# Altium integrated library Linear Technology Power Management Battery Management.IntLib: 626 symbols (part 56 of 56)
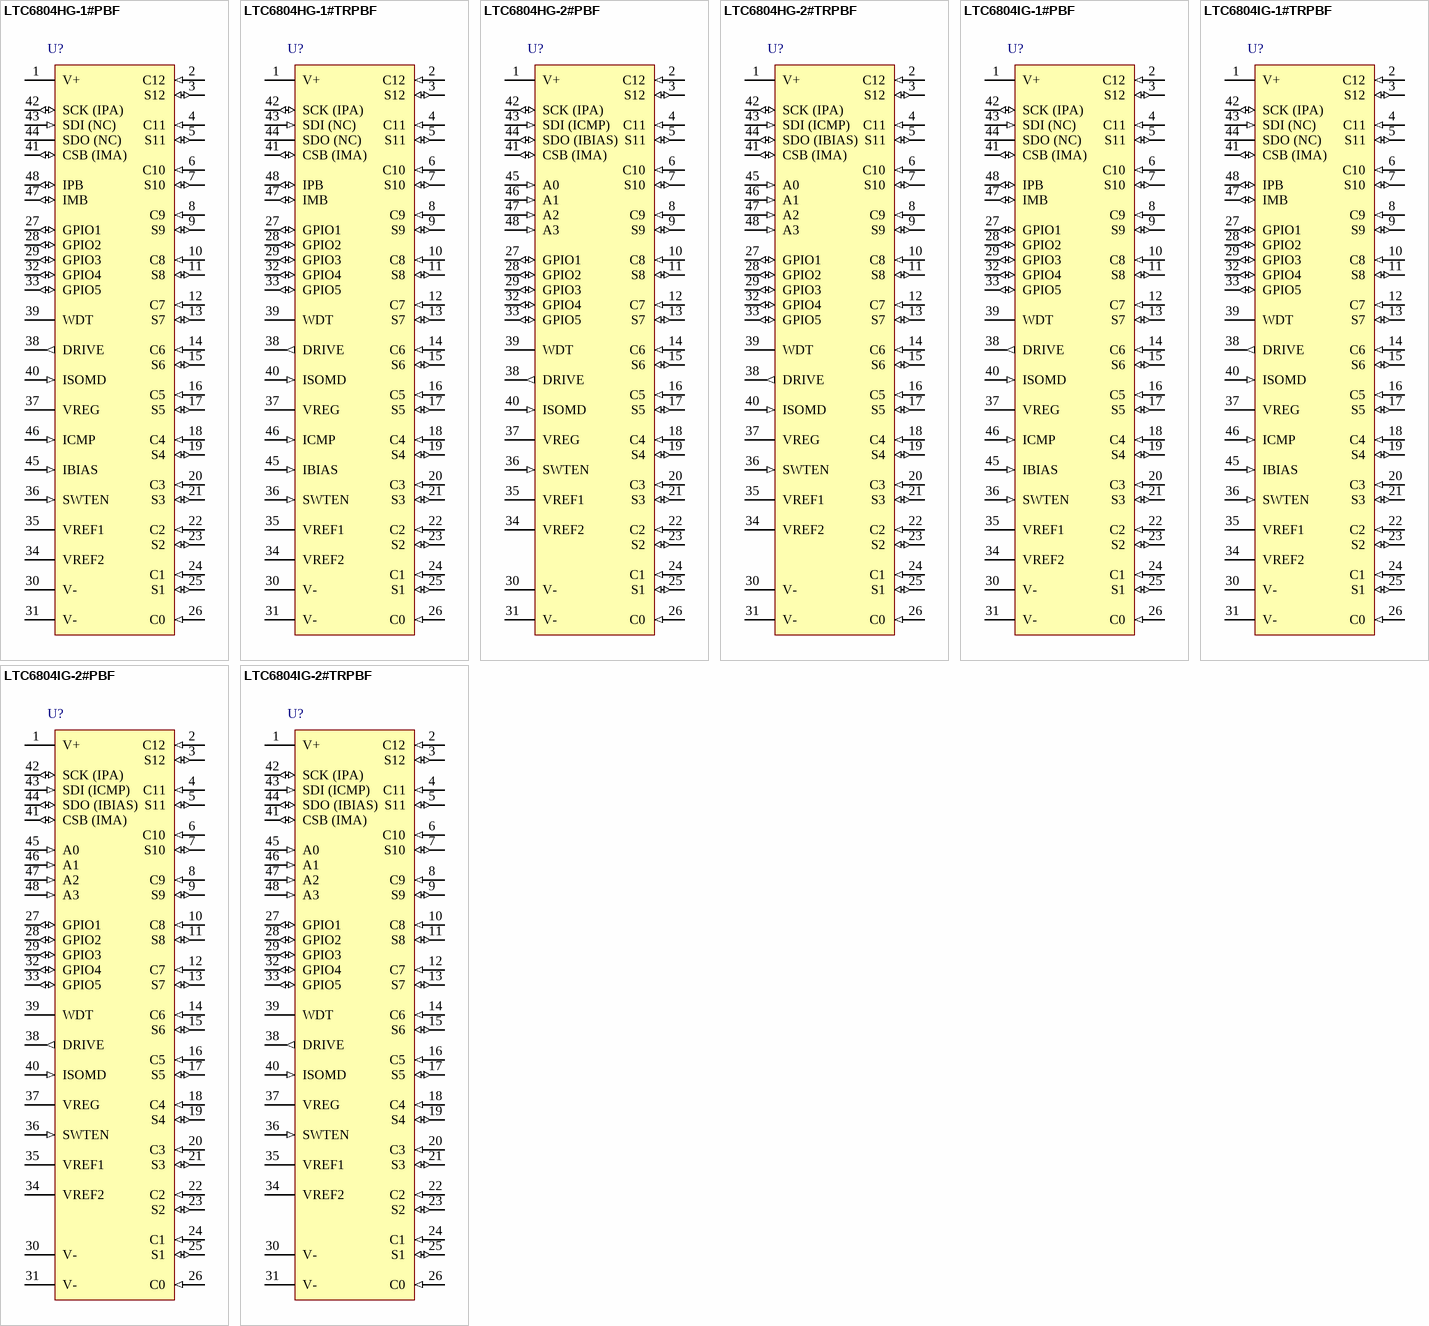
[diagram p77: symbols LTC6804HG-1#PBF to LTC6804IG-2#TRPBF]

## LTC6804HG-2#PBF
designator U?
Multicell Battery Monitor, 60 V Vin MAX, 48-pin SOP (G-48), -40 to 125 degC, Pb-Free; Manufacturer: Linear Technology; PartNumber: LTC6804HG-2#PBF; Battery Chemistry: Li-Ion, Li-Polymer, NiMH; Number of Cells: > 1000 V of stacked Li-Ion cells; Type of Charger: Battery Stack Monitor; Vin Max(V): 60; PackageVersion: Rev. Ø, 01/2011; PackageReference: G-48; PackageDescription: 48-Pin Plastic SSOP, Body 12.8 x 5.3 mm, Pitch 0.5 mm; Supplier 1: Digi-Key; Supplier Part Number 1: LTC6804HG-2#PBF-ND; Supplier 2: Newark; Supplier Part Number 2: 95W3384; RoHS: TRUE; Mounting Technology: Surface Mount; ComponentLink1Description: Manufacturer URL; ComponentLink1URL: http://www.linear.com/; ComponentLink2Description: Datasheet; ComponentLink2URL: http://cds.linear.com/docs/en/datasheet/680412f.pdf; ComponentLink3Description: Package Specification; ComponentLink3URL: http://cds.linear.com/docs/en/packaging/05081887_0_G48.pdf
footprint LT-G-48_N (SOP, 48-Leads, Body 13.1x5.6mm, Pitch 0.5mm, IPC Medium Density)
footprint LT-G-48_L (SOP, 48-Leads, Body 13.1x5.6mm, Pitch 0.5mm, IPC High Density)
footprint LT-G-48_M (SOP, 48-Leads, Body 13.1x5.6mm, Pitch 0.5mm, IPC Low Density)
pins: 1 V+ (power) "Positive Supply Pin.", 2 C12 (in) "Cell Inputs.", 3 S12 (io) "Balance Inputs/Outputs. 12 N-MOSFETs are connected between S(n) and C(n - 1) for discharging cells.", 4 C11 (in) "Cell Inputs.", 5 S11 (io) "Balance Inputs/Outputs. 12 N-MOSFETs are connected between S(n) and C(n - 1) for discharging cells.", 6 C10 (in) "Cell Inputs.", 7 S10 (io) "Balance Inputs/Outputs. 12 N-MOSFETs are connected between S(n) and C(n - 1) for discharging cells.", 8 C9 (in) "Cell Inputs.", 9 S9 (io) "Balance Inputs/Outputs. 12 N-MOSFETs are connected between S(n) and C(n - 1) for discharging cells.", 10 C8 (in) "Cell Inputs.", 11 S8 (io) "Balance Inputs/Outputs. 12 N-MOSFETs are connected between S(n) and C(n - 1) for discharging cells.", 12 C7 (in) "Cell Inputs.", 13 S7 (io) "Balance Inputs/Outputs. 12 N-MOSFETs are connected between S(n) and C(n - 1) for discharging cells.", 14 C6 (in) "Cell Inputs.", 15 S6 (io) "Balance Inputs/Outputs. 12 N-MOSFETs are connected between S(n) and C(n - 1) for discharging cells.", 16 C5 (in) "Cell Inputs.", 17 S5 (io) "Balance Inputs/Outputs. 12 N-MOSFETs are connected between S(n) and C(n - 1) for discharging cells.", 18 C4 (in) "Cell Inputs.", 19 S4 (io) "Balance Inputs/Outputs. 12 N-MOSFETs are connected between S(n) and C(n - 1) for discharging cells.", 20 C3 (in) "Cell Inputs.", 21 S3 (io) "Balance Inputs/Outputs. 12 N-MOSFETs are connected between S(n) and C(n - 1) for discharging cells.", 22 C2 (in) "Cell Inputs.", 23 S2 (io) "Balance Inputs/Outputs. 12 N-MOSFETs are connected between S(n) and C(n - 1) for discharging cells.", 24 C1 (in) "Cell Inputs.", 25 S1 (io) "Balance Inputs/Outputs. 12 N-MOSFETs are connected between S(n) and C(n - 1) for discharging cells.", 26 C0 (in) "Cell Inputs.", 27 GPIO1 (io) "General Purpose I/O. Can be used as digital inputs or digital outputs, or as analog inputs with a measurement range from V- to 5V.", 28 GPIO2 (io) "General Purpose I/O. Can be used as digital inputs or digital outputs, or as analog inputs with a measurement range from V- to 5V.", 29 GPIO3 (io) "General Purpose I/O. Can be used as digital inputs or digital outputs, or as analog inputs with a measurement range from V- to 5V. GPIO [3:5] can be used as an I2C or SPI port.", 30 V- (power) "Negative Supply Pins. The V- pins must be shorted together, external to the IC.", 31 V- (power) "Negative Supply Pins. The V- pins must be shorted together, external to the IC.", 32 GPIO4 (io) "General Purpose I/O. Can be used as digital inputs or digital outputs, or as analog inputs with a measurement range from V- to 5V. GPIO [3:5] can be used as an I2C or SPI port.", 33 GPIO5 (io) "General Purpose I/O. Can be used as digital inputs or digital outputs, or as analog inputs with a measurement range from V- to 5V. GPIO [3:5] can be used as an I2C or SPI port.", 34 VREF2 "Buffered 2nd reference voltage for driving multiple 10k thermistors. Bypass with an external 1uF capacitor.", 35 VREF1 "ADC Reference Voltage. Bypass with an external 1uF capacitor. No DC loads allowed.", 36 SWTEN (in) "Software Timer Enable. Connect this pin to VREG to enable the software timer.", 37 VREG (power) "5V Regulator Input. Bypass with an external 1uF capacitor.", 38 DRIVE (out) "Connect the base of an NPN to this pin. Connect the collector to V+ and the emitter to VREG.", 39 WDT (hiz) "Watchdog Timer Output Pin. This is an open drain NMOS digital output. It can be left unconnected or connected with a 1M resistor to VREG. If the LTC6804 does not receive a valid command within 2 seconds, the watchdog timer (See Datasheet)", 40 ISOMD (in) "Serial Interface Mode. Connecting ISOMD to VREG configures Pins 41 to 44 of the LTC6804 for 2-wire isolated interface (isoSPI) mode. Connecting ISOMD to V- configures the LTC6804 for 4-wire SPI mode.", 41 CSB (IMA) (io), 42 SCK (IPA) (io), 43 SDI (ICMP) (in), 44 SDO (IBIAS) (io), 45 A0 (in) "Address Pins. These digital inputs are connected to VREG or V- to set the chip address for addressable serial commands.", 46 A1 (in) "Address Pins. These digital inputs are connected to VREG or V- to set the chip address for addressable serial commands.", 47 A2 (in) "Address Pins. These digital inputs are connected to VREG or V- to set the chip address for addressable serial commands.", 48 A3 (in) "Address Pins. These digital inputs are connected to VREG or V- to set the chip address for addressable serial commands."

## LTC6804HG-2#TRPBF
designator U?
Multicell Battery Monitor, 60 V Vin MAX, 48-pin SOP (G-48), -40 to 125 degC, Pb-Free, Tape and Reel; Manufacturer: Linear Technology; PartNumber: LTC6804HG-2#TRPBF; Battery Chemistry: Li-Ion, Li-Polymer, NiMH; Number of Cells: > 1000 V of stacked Li-Ion cells; Type of Charger: Battery Stack Monitor; Vin Max(V): 60; PackageVersion: Rev. Ø, 01/2011; PackageReference: G-48; PackageDescription: 48-Pin Plastic SSOP, Body 12.8 x 5.3 mm, Pitch 0.5 mm; Supplier 1: Digi-Key; Supplier Part Number 1: LTC6804HG-2#TRPBF-ND; Supplier 2: Newark; Supplier Part Number 2: 95W3385; Packing: Tape and Reel; RoHS: TRUE; Mounting Technology: Surface Mount; ComponentLink1Description: Manufacturer URL; ComponentLink1URL: http://www.linear.com/; ComponentLink2Description: Datasheet; ComponentLink2URL: http://cds.linear.com/docs/en/datasheet/680412f.pdf; ComponentLink3Description: Package Specification; ComponentLink3URL: http://cds.linear.com/docs/en/packaging/05081887_0_G48.pdf
footprint LT-G-48_N (SOP, 48-Leads, Body 13.1x5.6mm, Pitch 0.5mm, IPC Medium Density)
footprint LT-G-48_L (SOP, 48-Leads, Body 13.1x5.6mm, Pitch 0.5mm, IPC High Density)
footprint LT-G-48_M (SOP, 48-Leads, Body 13.1x5.6mm, Pitch 0.5mm, IPC Low Density)
pins: 1 V+ (power) "Positive Supply Pin.", 2 C12 (in) "Cell Inputs.", 3 S12 (io) "Balance Inputs/Outputs. 12 N-MOSFETs are connected between S(n) and C(n - 1) for discharging cells.", 4 C11 (in) "Cell Inputs.", 5 S11 (io) "Balance Inputs/Outputs. 12 N-MOSFETs are connected between S(n) and C(n - 1) for discharging cells.", 6 C10 (in) "Cell Inputs.", 7 S10 (io) "Balance Inputs/Outputs. 12 N-MOSFETs are connected between S(n) and C(n - 1) for discharging cells.", 8 C9 (in) "Cell Inputs.", 9 S9 (io) "Balance Inputs/Outputs. 12 N-MOSFETs are connected between S(n) and C(n - 1) for discharging cells.", 10 C8 (in) "Cell Inputs.", 11 S8 (io) "Balance Inputs/Outputs. 12 N-MOSFETs are connected between S(n) and C(n - 1) for discharging cells.", 12 C7 (in) "Cell Inputs.", 13 S7 (io) "Balance Inputs/Outputs. 12 N-MOSFETs are connected between S(n) and C(n - 1) for discharging cells.", 14 C6 (in) "Cell Inputs.", 15 S6 (io) "Balance Inputs/Outputs. 12 N-MOSFETs are connected between S(n) and C(n - 1) for discharging cells.", 16 C5 (in) "Cell Inputs.", 17 S5 (io) "Balance Inputs/Outputs. 12 N-MOSFETs are connected between S(n) and C(n - 1) for discharging cells.", 18 C4 (in) "Cell Inputs.", 19 S4 (io) "Balance Inputs/Outputs. 12 N-MOSFETs are connected between S(n) and C(n - 1) for discharging cells.", 20 C3 (in) "Cell Inputs.", 21 S3 (io) "Balance Inputs/Outputs. 12 N-MOSFETs are connected between S(n) and C(n - 1) for discharging cells.", 22 C2 (in) "Cell Inputs.", 23 S2 (io) "Balance Inputs/Outputs. 12 N-MOSFETs are connected between S(n) and C(n - 1) for discharging cells.", 24 C1 (in) "Cell Inputs.", 25 S1 (io) "Balance Inputs/Outputs. 12 N-MOSFETs are connected between S(n) and C(n - 1) for discharging cells.", 26 C0 (in) "Cell Inputs.", 27 GPIO1 (io) "General Purpose I/O. Can be used as digital inputs or digital outputs, or as analog inputs with a measurement range from V- to 5V.", 28 GPIO2 (io) "General Purpose I/O. Can be used as digital inputs or digital outputs, or as analog inputs with a measurement range from V- to 5V.", 29 GPIO3 (io) "General Purpose I/O. Can be used as digital inputs or digital outputs, or as analog inputs with a measurement range from V- to 5V. GPIO [3:5] can be used as an I2C or SPI port.", 30 V- (power) "Negative Supply Pins. The V- pins must be shorted together, external to the IC.", 31 V- (power) "Negative Supply Pins. The V- pins must be shorted together, external to the IC.", 32 GPIO4 (io) "General Purpose I/O. Can be used as digital inputs or digital outputs, or as analog inputs with a measurement range from V- to 5V. GPIO [3:5] can be used as an I2C or SPI port.", 33 GPIO5 (io) "General Purpose I/O. Can be used as digital inputs or digital outputs, or as analog inputs with a measurement range from V- to 5V. GPIO [3:5] can be used as an I2C or SPI port.", 34 VREF2 "Buffered 2nd reference voltage for driving multiple 10k thermistors. Bypass with an external 1uF capacitor.", 35 VREF1 "ADC Reference Voltage. Bypass with an external 1uF capacitor. No DC loads allowed.", 36 SWTEN (in) "Software Timer Enable. Connect this pin to VREG to enable the software timer.", 37 VREG (power) "5V Regulator Input. Bypass with an external 1uF capacitor.", 38 DRIVE (out) "Connect the base of an NPN to this pin. Connect the collector to V+ and the emitter to VREG.", 39 WDT (hiz) "Watchdog Timer Output Pin. This is an open drain NMOS digital output. It can be left unconnected or connected with a 1M resistor to VREG. If the LTC6804 does not receive a valid command within 2 seconds, the watchdog timer (See Datasheet)", 40 ISOMD (in) "Serial Interface Mode. Connecting ISOMD to VREG configures Pins 41 to 44 of the LTC6804 for 2-wire isolated interface (isoSPI) mode. Connecting ISOMD to V- configures the LTC6804 for 4-wire SPI mode.", 41 CSB (IMA) (io), 42 SCK (IPA) (io), 43 SDI (ICMP) (in), 44 SDO (IBIAS) (io), 45 A0 (in) "Address Pins. These digital inputs are connected to VREG or V- to set the chip address for addressable serial commands.", 46 A1 (in) "Address Pins. These digital inputs are connected to VREG or V- to set the chip address for addressable serial commands.", 47 A2 (in) "Address Pins. These digital inputs are connected to VREG or V- to set the chip address for addressable serial commands.", 48 A3 (in) "Address Pins. These digital inputs are connected to VREG or V- to set the chip address for addressable serial commands."

## LTC6804IG-1#PBF
designator U?
Multicell Battery Monitor, 60 V Vin MAX, 48-pin SOP (G-48), -40 to 85 degC, Pb-Free; Manufacturer: Linear Technology; PartNumber: LTC6804IG-1#PBF; Battery Chemistry: Li-Ion, Li-Polymer, NiMH; Number of Cells: > 1000 V of stacked Li-Ion cells; Type of Charger: Battery Stack Monitor; Vin Max(V): 60; PackageVersion: Rev. Ø, 01/2011; PackageReference: G-48; PackageDescription: 48-Pin Plastic SSOP, Body 12.8 x 5.3 mm, Pitch 0.5 mm; Supplier 1: Digi-Key; Supplier Part Number 1: LTC6804IG-1#PBF-ND; Supplier 2: Newark; Supplier Part Number 2: 95W3386; RoHS: TRUE; Mounting Technology: Surface Mount; ComponentLink1Description: Manufacturer URL; ComponentLink1URL: http://www.linear.com/; ComponentLink2Description: Datasheet; ComponentLink2URL: http://cds.linear.com/docs/en/datasheet/680412f.pdf; ComponentLink3Description: Package Specification; ComponentLink3URL: http://cds.linear.com/docs/en/packaging/05081887_0_G48.pdf
footprint LT-G-48_N (SOP, 48-Leads, Body 13.1x5.6mm, Pitch 0.5mm, IPC Medium Density)
footprint LT-G-48_L (SOP, 48-Leads, Body 13.1x5.6mm, Pitch 0.5mm, IPC High Density)
footprint LT-G-48_M (SOP, 48-Leads, Body 13.1x5.6mm, Pitch 0.5mm, IPC Low Density)
pins: 1 V+ (power) "Positive Supply Pin.", 2 C12 (in) "Cell Inputs.", 3 S12 (io) "Balance Inputs/Outputs. 12 N-MOSFETs are connected between S(n) and C(n - 1) for discharging cells.", 4 C11 (in) "Cell Inputs.", 5 S11 (io) "Balance Inputs/Outputs. 12 N-MOSFETs are connected between S(n) and C(n - 1) for discharging cells.", 6 C10 (in) "Cell Inputs.", 7 S10 (io) "Balance Inputs/Outputs. 12 N-MOSFETs are connected between S(n) and C(n - 1) for discharging cells.", 8 C9 (in) "Cell Inputs.", 9 S9 (io) "Balance Inputs/Outputs. 12 N-MOSFETs are connected between S(n) and C(n - 1) for discharging cells.", 10 C8 (in) "Cell Inputs.", 11 S8 (io) "Balance Inputs/Outputs. 12 N-MOSFETs are connected between S(n) and C(n - 1) for discharging cells.", 12 C7 (in) "Cell Inputs.", 13 S7 (io) "Balance Inputs/Outputs. 12 N-MOSFETs are connected between S(n) and C(n - 1) for discharging cells.", 14 C6 (in) "Cell Inputs.", 15 S6 (io) "Balance Inputs/Outputs. 12 N-MOSFETs are connected between S(n) and C(n - 1) for discharging cells.", 16 C5 (in) "Cell Inputs.", 17 S5 (io) "Balance Inputs/Outputs. 12 N-MOSFETs are connected between S(n) and C(n - 1) for discharging cells.", 18 C4 (in) "Cell Inputs.", 19 S4 (io) "Balance Inputs/Outputs. 12 N-MOSFETs are connected between S(n) and C(n - 1) for discharging cells.", 20 C3 (in) "Cell Inputs.", 21 S3 (io) "Balance Inputs/Outputs. 12 N-MOSFETs are connected between S(n) and C(n - 1) for discharging cells.", 22 C2 (in) "Cell Inputs.", 23 S2 (io) "Balance Inputs/Outputs. 12 N-MOSFETs are connected between S(n) and C(n - 1) for discharging cells.", 24 C1 (in) "Cell Inputs.", 25 S1 (io) "Balance Inputs/Outputs. 12 N-MOSFETs are connected between S(n) and C(n - 1) for discharging cells.", 26 C0 (in) "Cell Inputs.", 27 GPIO1 (io) "General Purpose I/O. Can be used as digital inputs or digital outputs, or as analog inputs with a measurement range from V- to 5V.", 28 GPIO2 (io) "General Purpose I/O. Can be used as digital inputs or digital outputs, or as analog inputs with a measurement range from V- to 5V.", 29 GPIO3 (io) "General Purpose I/O. Can be used as digital inputs or digital outputs, or as analog inputs with a measurement range from V- to 5V. GPIO [3:5] can be used as an I2C or SPI port.", 30 V- (power) "Negative Supply Pins. The V- pins must be shorted together, external to the IC.", 31 V- (power) "Negative Supply Pins. The V- pins must be shorted together, external to the IC.", 32 GPIO4 (io) "General Purpose I/O. Can be used as digital inputs or digital outputs, or as analog inputs with a measurement range from V- to 5V. GPIO [3:5] can be used as an I2C or SPI port.", 33 GPIO5 (io) "General Purpose I/O. Can be used as digital inputs or digital outputs, or as analog inputs with a measurement range from V- to 5V. GPIO [3:5] can be used as an I2C or SPI port.", 34 VREF2 "Buffered 2nd reference voltage for driving multiple 10k thermistors. Bypass with an external 1uF capacitor.", 35 VREF1 "ADC Reference Voltage. Bypass with an external 1uF capacitor. No DC loads allowed.", 36 SWTEN (in) "Software Timer Enable. Connect this pin to VREG to enable the software timer.", 37 VREG (power) "5V Regulator Input. Bypass with an external 1uF capacitor.", 38 DRIVE (out) "Connect the base of an NPN to this pin. Connect the collector to V+ and the emitter to VREG.", 39 WDT (hiz) "Watchdog Timer Output Pin. This is an open drain NMOS digital output. It can be left unconnected or connected with a 1M resistor to VREG. If the LTC6804 does not receive a valid command within 2 seconds, the watchdog timer (See Datasheet)", 40 ISOMD (in) "Serial Interface Mode. Connecting ISOMD to VREG configures Pins 41 to 44 of the LTC6804 for 2-wire isolated interface (isoSPI) mode. Connecting ISOMD to V- configures the LTC6804 for 4-wire SPI mode.", 41 CSB (IMA) (io), 42 SCK (IPA) (io), 43 SDI (NC) (in), 44 SDO (NC) (oc), 45 IBIAS (in) "Isolated Interface Current Bias. Tie IBIAS to V- through a resistor divider to set the interface output current level. When the isoSPI interface is enabled, the IBIAS pin voltage is 2V. The IPA/IMA or IPB/IMB output current (See Datasheet)", 46 ICMP (in) "Isolated Interface Comparator Voltage Threshold Set. Tie this pin to the resistor divider between IBIAS and V- to set the voltage threshold of the isoSPI receiver comparators. The comparator thresholds are set to 1/2 the (See Datasheet)", 47 IMB (io) "Isolated 2-Wire Serial Interface Port B. IMB (minus) are a differential input/output pair.", 48 IPB (io) "Isolated 2-Wire Serial Interface Port B. IPB (plus) are a differential input/output pair."

## LTC6804IG-1#TRPBF
designator U?
Multicell Battery Monitor, 60 V Vin MAX, 48-pin SOP (G-48), -40 to 85 degC, Pb-Free, Tape and Reel; Manufacturer: Linear Technology; PartNumber: LTC6804IG-1#TRPBF; Battery Chemistry: Li-Ion, Li-Polymer, NiMH; Number of Cells: > 1000 V of stacked Li-Ion cells; Type of Charger: Battery Stack Monitor; Vin Max(V): 60; PackageVersion: Rev. Ø, 01/2011; PackageReference: G-48; PackageDescription: 48-Pin Plastic SSOP, Body 12.8 x 5.3 mm, Pitch 0.5 mm; Supplier 1: Digi-Key; Supplier Part Number 1: LTC6804IG-1#TRPBF-ND; Supplier 2: Newark; Supplier Part Number 2: 95W3387; Packing: Tape and Reel; RoHS: TRUE; Mounting Technology: Surface Mount; ComponentLink1Description: Manufacturer URL; ComponentLink1URL: http://www.linear.com/; ComponentLink2Description: Datasheet; ComponentLink2URL: http://cds.linear.com/docs/en/datasheet/680412f.pdf; ComponentLink3Description: Package Specification; ComponentLink3URL: http://cds.linear.com/docs/en/packaging/05081887_0_G48.pdf
footprint LT-G-48_N (SOP, 48-Leads, Body 13.1x5.6mm, Pitch 0.5mm, IPC Medium Density)
footprint LT-G-48_L (SOP, 48-Leads, Body 13.1x5.6mm, Pitch 0.5mm, IPC High Density)
footprint LT-G-48_M (SOP, 48-Leads, Body 13.1x5.6mm, Pitch 0.5mm, IPC Low Density)
pins: 1 V+ (power) "Positive Supply Pin.", 2 C12 (in) "Cell Inputs.", 3 S12 (io) "Balance Inputs/Outputs. 12 N-MOSFETs are connected between S(n) and C(n - 1) for discharging cells.", 4 C11 (in) "Cell Inputs.", 5 S11 (io) "Balance Inputs/Outputs. 12 N-MOSFETs are connected between S(n) and C(n - 1) for discharging cells.", 6 C10 (in) "Cell Inputs.", 7 S10 (io) "Balance Inputs/Outputs. 12 N-MOSFETs are connected between S(n) and C(n - 1) for discharging cells.", 8 C9 (in) "Cell Inputs.", 9 S9 (io) "Balance Inputs/Outputs. 12 N-MOSFETs are connected between S(n) and C(n - 1) for discharging cells.", 10 C8 (in) "Cell Inputs.", 11 S8 (io) "Balance Inputs/Outputs. 12 N-MOSFETs are connected between S(n) and C(n - 1) for discharging cells.", 12 C7 (in) "Cell Inputs.", 13 S7 (io) "Balance Inputs/Outputs. 12 N-MOSFETs are connected between S(n) and C(n - 1) for discharging cells.", 14 C6 (in) "Cell Inputs.", 15 S6 (io) "Balance Inputs/Outputs. 12 N-MOSFETs are connected between S(n) and C(n - 1) for discharging cells.", 16 C5 (in) "Cell Inputs.", 17 S5 (io) "Balance Inputs/Outputs. 12 N-MOSFETs are connected between S(n) and C(n - 1) for discharging cells.", 18 C4 (in) "Cell Inputs.", 19 S4 (io) "Balance Inputs/Outputs. 12 N-MOSFETs are connected between S(n) and C(n - 1) for discharging cells.", 20 C3 (in) "Cell Inputs.", 21 S3 (io) "Balance Inputs/Outputs. 12 N-MOSFETs are connected between S(n) and C(n - 1) for discharging cells.", 22 C2 (in) "Cell Inputs.", 23 S2 (io) "Balance Inputs/Outputs. 12 N-MOSFETs are connected between S(n) and C(n - 1) for discharging cells.", 24 C1 (in) "Cell Inputs.", 25 S1 (io) "Balance Inputs/Outputs. 12 N-MOSFETs are connected between S(n) and C(n - 1) for discharging cells.", 26 C0 (in) "Cell Inputs.", 27 GPIO1 (io) "General Purpose I/O. Can be used as digital inputs or digital outputs, or as analog inputs with a measurement range from V- to 5V.", 28 GPIO2 (io) "General Purpose I/O. Can be used as digital inputs or digital outputs, or as analog inputs with a measurement range from V- to 5V.", 29 GPIO3 (io) "General Purpose I/O. Can be used as digital inputs or digital outputs, or as analog inputs with a measurement range from V- to 5V. GPIO [3:5] can be used as an I2C or SPI port.", 30 V- (power) "Negative Supply Pins. The V- pins must be shorted together, external to the IC.", 31 V- (power) "Negative Supply Pins. The V- pins must be shorted together, external to the IC.", 32 GPIO4 (io) "General Purpose I/O. Can be used as digital inputs or digital outputs, or as analog inputs with a measurement range from V- to 5V. GPIO [3:5] can be used as an I2C or SPI port.", 33 GPIO5 (io) "General Purpose I/O. Can be used as digital inputs or digital outputs, or as analog inputs with a measurement range from V- to 5V. GPIO [3:5] can be used as an I2C or SPI port.", 34 VREF2 "Buffered 2nd reference voltage for driving multiple 10k thermistors. Bypass with an external 1uF capacitor.", 35 VREF1 "ADC Reference Voltage. Bypass with an external 1uF capacitor. No DC loads allowed.", 36 SWTEN (in) "Software Timer Enable. Connect this pin to VREG to enable the software timer.", 37 VREG (power) "5V Regulator Input. Bypass with an external 1uF capacitor.", 38 DRIVE (out) "Connect the base of an NPN to this pin. Connect the collector to V+ and the emitter to VREG.", 39 WDT (hiz) "Watchdog Timer Output Pin. This is an open drain NMOS digital output. It can be left unconnected or connected with a 1M resistor to VREG. If the LTC6804 does not receive a valid command within 2 seconds, the watchdog timer (See Datasheet)", 40 ISOMD (in) "Serial Interface Mode. Connecting ISOMD to VREG configures Pins 41 to 44 of the LTC6804 for 2-wire isolated interface (isoSPI) mode. Connecting ISOMD to V- configures the LTC6804 for 4-wire SPI mode.", 41 CSB (IMA) (io), 42 SCK (IPA) (io), 43 SDI (NC) (in), 44 SDO (NC) (oc), 45 IBIAS (in) "Isolated Interface Current Bias. Tie IBIAS to V- through a resistor divider to set the interface output current level. When the isoSPI interface is enabled, the IBIAS pin voltage is 2V. The IPA/IMA or IPB/IMB output current (See Datasheet)", 46 ICMP (in) "Isolated Interface Comparator Voltage Threshold Set. Tie this pin to the resistor divider between IBIAS and V- to set the voltage threshold of the isoSPI receiver comparators. The comparator thresholds are set to 1/2 the (See Datasheet)", 47 IMB (io) "Isolated 2-Wire Serial Interface Port B. IMB (minus) are a differential input/output pair.", 48 IPB (io) "Isolated 2-Wire Serial Interface Port B. IPB (plus) are a differential input/output pair."

## LTC6804IG-2#PBF
designator U?
Multicell Battery Monitor, 60 V Vin MAX, 48-pin SOP (G-48), -40 to 85 degC, Pb-Free; Manufacturer: Linear Technology; PartNumber: LTC6804IG-2#PBF; Battery Chemistry: Li-Ion, Li-Polymer, NiMH; Number of Cells: > 1000 V of stacked Li-Ion cells; Type of Charger: Battery Stack Monitor; Vin Max(V): 60; PackageVersion: Rev. Ø, 01/2011; PackageReference: G-48; PackageDescription: 48-Pin Plastic SSOP, Body 12.8 x 5.3 mm, Pitch 0.5 mm; Supplier 1: Digi-Key; Supplier Part Number 1: LTC6804IG-2#PBF-ND; Supplier 2: Newark; Supplier Part Number 2: 95W3388; RoHS: TRUE; Mounting Technology: Surface Mount; ComponentLink1Description: Manufacturer URL; ComponentLink1URL: http://www.linear.com/; ComponentLink2Description: Datasheet; ComponentLink2URL: http://cds.linear.com/docs/en/datasheet/680412f.pdf; ComponentLink3Description: Package Specification; ComponentLink3URL: http://cds.linear.com/docs/en/packaging/05081887_0_G48.pdf
footprint LT-G-48_N (SOP, 48-Leads, Body 13.1x5.6mm, Pitch 0.5mm, IPC Medium Density)
footprint LT-G-48_L (SOP, 48-Leads, Body 13.1x5.6mm, Pitch 0.5mm, IPC High Density)
footprint LT-G-48_M (SOP, 48-Leads, Body 13.1x5.6mm, Pitch 0.5mm, IPC Low Density)
pins: 1 V+ (power) "Positive Supply Pin.", 2 C12 (in) "Cell Inputs.", 3 S12 (io) "Balance Inputs/Outputs. 12 N-MOSFETs are connected between S(n) and C(n - 1) for discharging cells.", 4 C11 (in) "Cell Inputs.", 5 S11 (io) "Balance Inputs/Outputs. 12 N-MOSFETs are connected between S(n) and C(n - 1) for discharging cells.", 6 C10 (in) "Cell Inputs.", 7 S10 (io) "Balance Inputs/Outputs. 12 N-MOSFETs are connected between S(n) and C(n - 1) for discharging cells.", 8 C9 (in) "Cell Inputs.", 9 S9 (io) "Balance Inputs/Outputs. 12 N-MOSFETs are connected between S(n) and C(n - 1) for discharging cells.", 10 C8 (in) "Cell Inputs.", 11 S8 (io) "Balance Inputs/Outputs. 12 N-MOSFETs are connected between S(n) and C(n - 1) for discharging cells.", 12 C7 (in) "Cell Inputs.", 13 S7 (io) "Balance Inputs/Outputs. 12 N-MOSFETs are connected between S(n) and C(n - 1) for discharging cells.", 14 C6 (in) "Cell Inputs.", 15 S6 (io) "Balance Inputs/Outputs. 12 N-MOSFETs are connected between S(n) and C(n - 1) for discharging cells.", 16 C5 (in) "Cell Inputs.", 17 S5 (io) "Balance Inputs/Outputs. 12 N-MOSFETs are connected between S(n) and C(n - 1) for discharging cells.", 18 C4 (in) "Cell Inputs.", 19 S4 (io) "Balance Inputs/Outputs. 12 N-MOSFETs are connected between S(n) and C(n - 1) for discharging cells.", 20 C3 (in) "Cell Inputs.", 21 S3 (io) "Balance Inputs/Outputs. 12 N-MOSFETs are connected between S(n) and C(n - 1) for discharging cells.", 22 C2 (in) "Cell Inputs.", 23 S2 (io) "Balance Inputs/Outputs. 12 N-MOSFETs are connected between S(n) and C(n - 1) for discharging cells.", 24 C1 (in) "Cell Inputs.", 25 S1 (io) "Balance Inputs/Outputs. 12 N-MOSFETs are connected between S(n) and C(n - 1) for discharging cells.", 26 C0 (in) "Cell Inputs.", 27 GPIO1 (io) "General Purpose I/O. Can be used as digital inputs or digital outputs, or as analog inputs with a measurement range from V- to 5V.", 28 GPIO2 (io) "General Purpose I/O. Can be used as digital inputs or digital outputs, or as analog inputs with a measurement range from V- to 5V.", 29 GPIO3 (io) "General Purpose I/O. Can be used as digital inputs or digital outputs, or as analog inputs with a measurement range from V- to 5V. GPIO [3:5] can be used as an I2C or SPI port.", 30 V- (power) "Negative Supply Pins. The V- pins must be shorted together, external to the IC.", 31 V- (power) "Negative Supply Pins. The V- pins must be shorted together, external to the IC.", 32 GPIO4 (io) "General Purpose I/O. Can be used as digital inputs or digital outputs, or as analog inputs with a measurement range from V- to 5V. GPIO [3:5] can be used as an I2C or SPI port.", 33 GPIO5 (io) "General Purpose I/O. Can be used as digital inputs or digital outputs, or as analog inputs with a measurement range from V- to 5V. GPIO [3:5] can be used as an I2C or SPI port.", 34 VREF2 "Buffered 2nd reference voltage for driving multiple 10k thermistors. Bypass with an external 1uF capacitor.", 35 VREF1 "ADC Reference Voltage. Bypass with an external 1uF capacitor. No DC loads allowed.", 36 SWTEN (in) "Software Timer Enable. Connect this pin to VREG to enable the software timer.", 37 VREG (power) "5V Regulator Input. Bypass with an external 1uF capacitor.", 38 DRIVE (out) "Connect the base of an NPN to this pin. Connect the collector to V+ and the emitter to VREG.", 39 WDT (hiz) "Watchdog Timer Output Pin. This is an open drain NMOS digital output. It can be left unconnected or connected with a 1M resistor to VREG. If the LTC6804 does not receive a valid command within 2 seconds, the watchdog timer (See Datasheet)", 40 ISOMD (in) "Serial Interface Mode. Connecting ISOMD to VREG configures Pins 41 to 44 of the LTC6804 for 2-wire isolated interface (isoSPI) mode. Connecting ISOMD to V- configures the LTC6804 for 4-wire SPI mode.", 41 CSB (IMA) (io), 42 SCK (IPA) (io), 43 SDI (ICMP) (in), 44 SDO (IBIAS) (io), 45 A0 (in) "Address Pins. These digital inputs are connected to VREG or V- to set the chip address for addressable serial commands.", 46 A1 (in) "Address Pins. These digital inputs are connected to VREG or V- to set the chip address for addressable serial commands.", 47 A2 (in) "Address Pins. These digital inputs are connected to VREG or V- to set the chip address for addressable serial commands.", 48 A3 (in) "Address Pins. These digital inputs are connected to VREG or V- to set the chip address for addressable serial commands."

## LTC6804IG-2#TRPBF
designator U?
Multicell Battery Monitor, 60 V Vin MAX, 48-pin SOP (G-48), -40 to 85 degC, Pb-Free, Tape and Reel; Manufacturer: Linear Technology; PartNumber: LTC6804IG-2#TRPBF; Battery Chemistry: Li-Ion, Li-Polymer, NiMH; Number of Cells: > 1000 V of stacked Li-Ion cells; Type of Charger: Battery Stack Monitor; Vin Max(V): 60; PackageVersion: Rev. Ø, 01/2011; PackageReference: G-48; PackageDescription: 48-Pin Plastic SSOP, Body 12.8 x 5.3 mm, Pitch 0.5 mm; Supplier 1: Digi-Key; Supplier Part Number 1: LTC6804IG-2#TRPBF-ND; Supplier 2: Newark; Supplier Part Number 2: 95W3389; Packing: Tape and Reel; RoHS: TRUE; Mounting Technology: Surface Mount; ComponentLink1Description: Manufacturer URL; ComponentLink1URL: http://www.linear.com/; ComponentLink2Description: Datasheet; ComponentLink2URL: http://cds.linear.com/docs/en/datasheet/680412f.pdf; ComponentLink3Description: Package Specification; ComponentLink3URL: http://cds.linear.com/docs/en/packaging/05081887_0_G48.pdf
footprint LT-G-48_N (SOP, 48-Leads, Body 13.1x5.6mm, Pitch 0.5mm, IPC Medium Density)
footprint LT-G-48_L (SOP, 48-Leads, Body 13.1x5.6mm, Pitch 0.5mm, IPC High Density)
footprint LT-G-48_M (SOP, 48-Leads, Body 13.1x5.6mm, Pitch 0.5mm, IPC Low Density)
pins: 1 V+ (power) "Positive Supply Pin.", 2 C12 (in) "Cell Inputs.", 3 S12 (io) "Balance Inputs/Outputs. 12 N-MOSFETs are connected between S(n) and C(n - 1) for discharging cells.", 4 C11 (in) "Cell Inputs.", 5 S11 (io) "Balance Inputs/Outputs. 12 N-MOSFETs are connected between S(n) and C(n - 1) for discharging cells.", 6 C10 (in) "Cell Inputs.", 7 S10 (io) "Balance Inputs/Outputs. 12 N-MOSFETs are connected between S(n) and C(n - 1) for discharging cells.", 8 C9 (in) "Cell Inputs.", 9 S9 (io) "Balance Inputs/Outputs. 12 N-MOSFETs are connected between S(n) and C(n - 1) for discharging cells.", 10 C8 (in) "Cell Inputs.", 11 S8 (io) "Balance Inputs/Outputs. 12 N-MOSFETs are connected between S(n) and C(n - 1) for discharging cells.", 12 C7 (in) "Cell Inputs.", 13 S7 (io) "Balance Inputs/Outputs. 12 N-MOSFETs are connected between S(n) and C(n - 1) for discharging cells.", 14 C6 (in) "Cell Inputs.", 15 S6 (io) "Balance Inputs/Outputs. 12 N-MOSFETs are connected between S(n) and C(n - 1) for discharging cells.", 16 C5 (in) "Cell Inputs.", 17 S5 (io) "Balance Inputs/Outputs. 12 N-MOSFETs are connected between S(n) and C(n - 1) for discharging cells.", 18 C4 (in) "Cell Inputs.", 19 S4 (io) "Balance Inputs/Outputs. 12 N-MOSFETs are connected between S(n) and C(n - 1) for discharging cells.", 20 C3 (in) "Cell Inputs.", 21 S3 (io) "Balance Inputs/Outputs. 12 N-MOSFETs are connected between S(n) and C(n - 1) for discharging cells.", 22 C2 (in) "Cell Inputs.", 23 S2 (io) "Balance Inputs/Outputs. 12 N-MOSFETs are connected between S(n) and C(n - 1) for discharging cells.", 24 C1 (in) "Cell Inputs.", 25 S1 (io) "Balance Inputs/Outputs. 12 N-MOSFETs are connected between S(n) and C(n - 1) for discharging cells.", 26 C0 (in) "Cell Inputs.", 27 GPIO1 (io) "General Purpose I/O. Can be used as digital inputs or digital outputs, or as analog inputs with a measurement range from V- to 5V.", 28 GPIO2 (io) "General Purpose I/O. Can be used as digital inputs or digital outputs, or as analog inputs with a measurement range from V- to 5V.", 29 GPIO3 (io) "General Purpose I/O. Can be used as digital inputs or digital outputs, or as analog inputs with a measurement range from V- to 5V. GPIO [3:5] can be used as an I2C or SPI port.", 30 V- (power) "Negative Supply Pins. The V- pins must be shorted together, external to the IC.", 31 V- (power) "Negative Supply Pins. The V- pins must be shorted together, external to the IC.", 32 GPIO4 (io) "General Purpose I/O. Can be used as digital inputs or digital outputs, or as analog inputs with a measurement range from V- to 5V. GPIO [3:5] can be used as an I2C or SPI port.", 33 GPIO5 (io) "General Purpose I/O. Can be used as digital inputs or digital outputs, or as analog inputs with a measurement range from V- to 5V. GPIO [3:5] can be used as an I2C or SPI port.", 34 VREF2 "Buffered 2nd reference voltage for driving multiple 10k thermistors. Bypass with an external 1uF capacitor.", 35 VREF1 "ADC Reference Voltage. Bypass with an external 1uF capacitor. No DC loads allowed.", 36 SWTEN (in) "Software Timer Enable. Connect this pin to VREG to enable the software timer.", 37 VREG (power) "5V Regulator Input. Bypass with an external 1uF capacitor.", 38 DRIVE (out) "Connect the base of an NPN to this pin. Connect the collector to V+ and the emitter to VREG.", 39 WDT (hiz) "Watchdog Timer Output Pin. This is an open drain NMOS digital output. It can be left unconnected or connected with a 1M resistor to VREG. If the LTC6804 does not receive a valid command within 2 seconds, the watchdog timer (See Datasheet)", 40 ISOMD (in) "Serial Interface Mode. Connecting ISOMD to VREG configures Pins 41 to 44 of the LTC6804 for 2-wire isolated interface (isoSPI) mode. Connecting ISOMD to V- configures the LTC6804 for 4-wire SPI mode.", 41 CSB (IMA) (io), 42 SCK (IPA) (io), 43 SDI (ICMP) (in), 44 SDO (IBIAS) (io), 45 A0 (in) "Address Pins. These digital inputs are connected to VREG or V- to set the chip address for addressable serial commands.", 46 A1 (in) "Address Pins. These digital inputs are connected to VREG or V- to set the chip address for addressable serial commands.", 47 A2 (in) "Address Pins. These digital inputs are connected to VREG or V- to set the chip address for addressable serial commands.", 48 A3 (in) "Address Pins. These digital inputs are connected to VREG or V- to set the chip address for addressable serial commands."